# EAGLE library part CS43L22 (library walkgeek-eagle)
CS43L22 edit this description Auto generated by make-symbol-device-package-bsdl.ulp Rev. 43 Source: CS43L22.txt
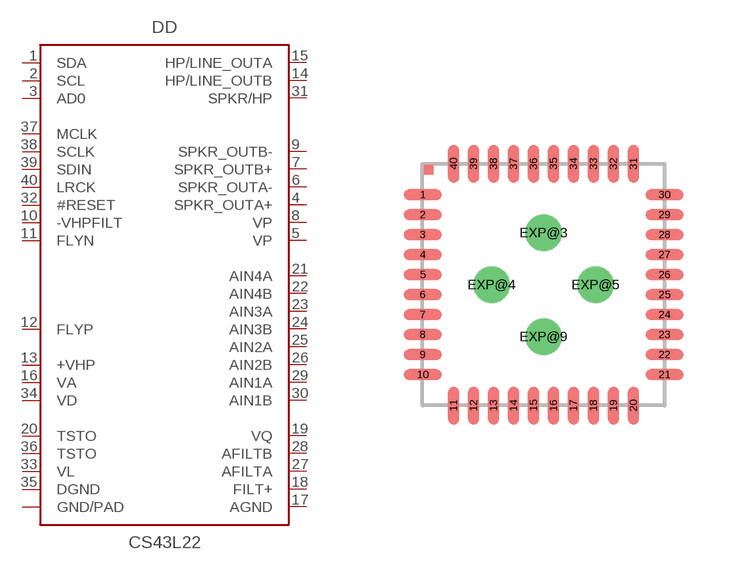
[diagram p0: symbol with the pads of QFN40-6X6; footprint QFN40-6X6]

Designator prefix DD

## CS43L22  [QFN40-6X6]
1  SDA
2  SCL  in
3  AD0  in
4  SPKR_OUTA+  out
5  VP  in
6  SPKR_OUTA-  out
7  SPKR_OUTB+  out
8  VP  in
9  SPKR_OUTB-  out
10  -VHPFILT  out
11  FLYN  out
12  FLYP  out
13  +VHP  in
14  HP/LINE_OUTB  out
15  HP/LINE_OUTA  out
16  VA  pwr
17  AGND  pwr
18  FILT+  out
19  VQ  out
20  TSTO  nc
21  AIN4A  in
22  AIN4B  in
23  AIN3A  in
24  AIN3B  in
25  AIN2A  in
26  AIN2B  in
27  AFILTA  out
28  AFILTB  out
29  AIN1A  in
30  AIN1B  in
31  SPKR/HP  in
32  #RESET  in
33  VL  pwr
34  VD  pwr
35  DGND  pwr
36  TSTO  nc
37  MCLK  in
38  SCLK
39  SDIN  in
40  LRCK
EXP@3  GND/PAD  pwr
EXP@4  GND/PAD  pwr
EXP@5  GND/PAD  pwr
EXP@9  GND/PAD  pwr

## Footprint QFN40-6X6 (pad centres in mm)
RHA (S-PQFP-N40) 6 x 6 mm Source: http://focus.ti.com/lit/ds/symlink/tps65020.pdf
smd 0.95 x 0.28: 1 -3.025,2.25; 2 -3.025,1.75; 3 -3.025,1.25; 4 -3.025,0.75; 5 -3.025,0.25; 6 -3.025,-0.25; 7 -3.025,-0.75; 8 -3.025,-1.25; 9 -3.025,-1.75; 10 -3.025,-2.25; 21 3.025,-2.25; 22 3.025,-1.75; 23 3.025,-1.25; 24 3.025,-0.75; 25 3.025,-0.25; 26 3.025,0.25; 27 3.025,0.75; 28 3.025,1.25; 29 3.025,1.75; 30 3.025,2.25
smd 0.28 x 0.95: 11 -2.25,-3.025; 12 -1.75,-3.025; 13 -1.25,-3.025; 14 -0.75,-3.025; 15 -0.25,-3.025; 16 0.25,-3.025; 17 0.75,-3.025; 18 1.25,-3.025; 19 1.75,-3.025; 20 2.25,-3.025; 31 2.25,3.025; 32 1.75,3.025; 33 1.25,3.025; 34 0.75,3.025; 35 0.25,3.025; 36 -0.25,3.025; 37 -0.75,3.025; 38 -1.25,3.025; 39 -1.75,3.025; 40 -2.25,3.025
drill 0.4: EXP@3 0,1.3; EXP@4 -1.3,0; EXP@5 1.3,0; EXP@9 0,-1.3